# Altium schematic symbol library WE-SPXO.SchLib: 233 symbols (part 4 of 4)
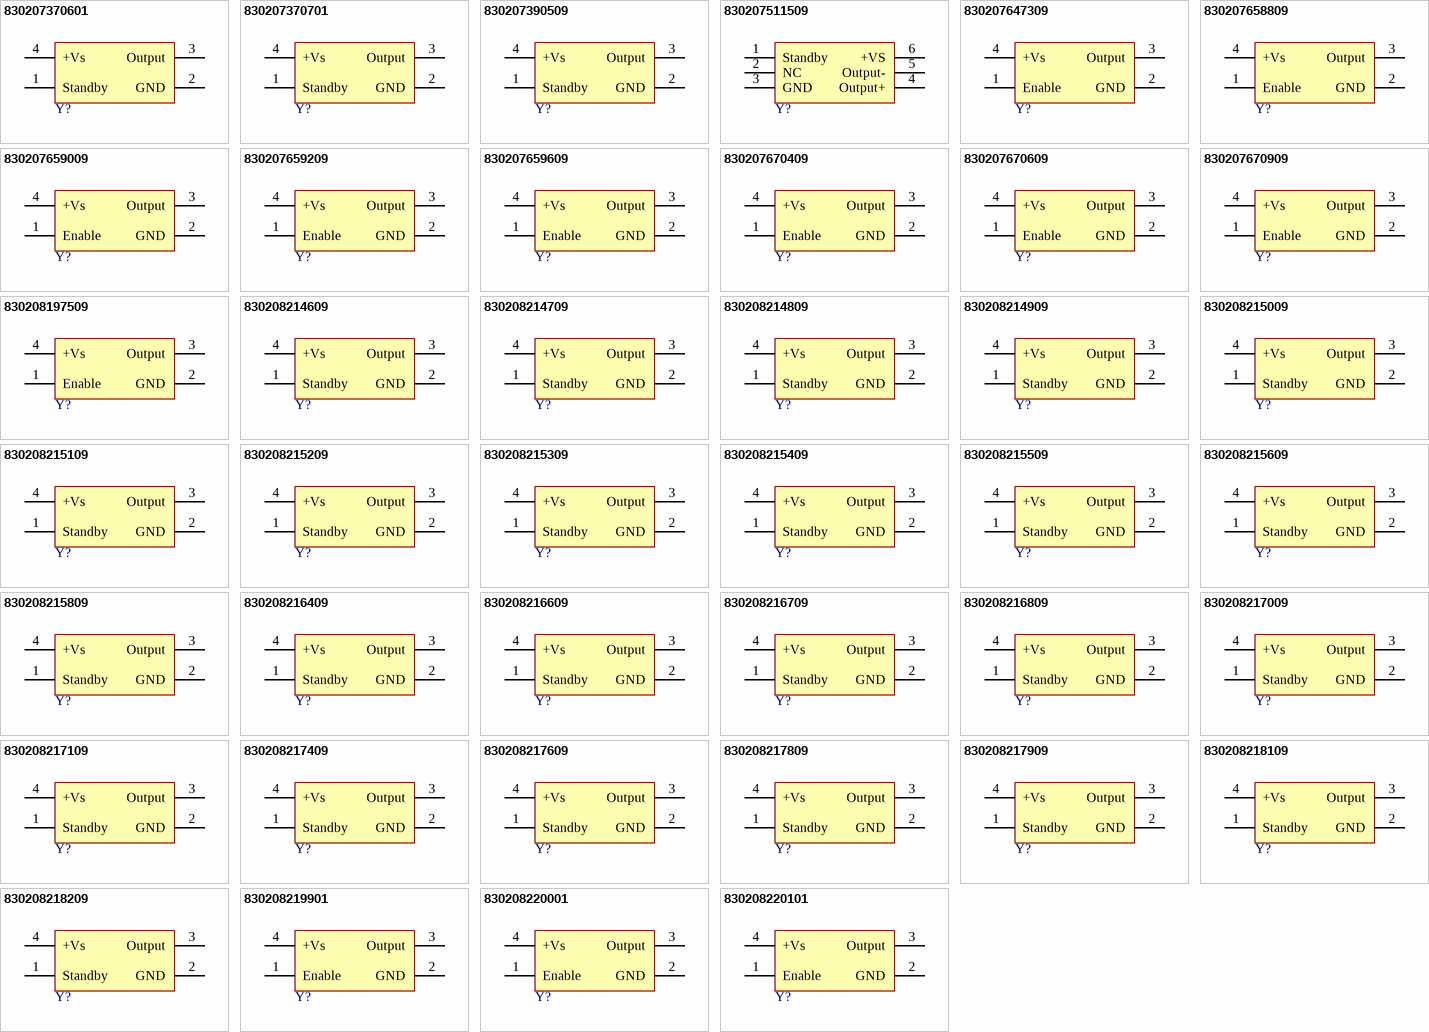
[diagram p8: symbols 830207370601 to 830208220101]

## 830208215609
designator Y?, comment 32.768MHz, 3.3V  (value not drawn)
WE-SPXO Simple Packaged Quartz Oscillator, SMT, IQXO-540, 32.768MHz, 3.3V; Manufacturer Part Number: 830208215609; Manufacturer: Wurth Elektronik; Frequency Stability: +/-25ppm; ComponentLink1Description: Website Link; ComponentLink1URL: https://www.we-online.com/redexpert/article/830208215609?ad; ComponentLink2Description: Datasheet Link; ComponentLink2URL: https://www.we-online.com/redexpert/spec/830208215609?ad; Category: Oscillators; Match Code: WE-SPXO; Mount: Surface Mount; Operating Temperature Max: 70°C; Operating Temperature Min: -20°C; Packaging: Tape and Reel; Case/Size Code: IQXO-540; Length: 2mm; Width: 1.6mm; Height: 0.7mm; Frequency: 32.768MHz; Supply Voltage: 3.3V
footprint WE-SPXO_IQXO-540
pins: 1 Standby, 2 GND, 3 Output, 4 +Vs

## 830208215809
designator Y?, comment 50MHz, 3.3V  (value not drawn)
WE-SPXO Simple Packaged Quartz Oscillator, SMT, IQXO-540, 50MHz, 3.3V; Manufacturer Part Number: 830208215809; Manufacturer: Wurth Elektronik; Frequency Stability: +/-25ppm; ComponentLink1Description: Website Link; ComponentLink1URL: https://www.we-online.com/redexpert/article/830208215809?ad; ComponentLink2Description: Datasheet Link; ComponentLink2URL: https://www.we-online.com/redexpert/spec/830208215809?ad; Category: Oscillators; Match Code: WE-SPXO; Mount: Surface Mount; Operating Temperature Max: 70°C; Operating Temperature Min: -20°C; Packaging: Tape and Reel; Case/Size Code: IQXO-540; Length: 2mm; Width: 1.6mm; Height: 0.7mm; Frequency: 50MHz; Supply Voltage: 3.3V
footprint WE-SPXO_IQXO-540
pins: 1 Standby, 2 GND, 3 Output, 4 +Vs

## 830208216409
designator Y?, comment 4MHz, 1.8V  (value not drawn)
WE-SPXO Simple Packaged Quartz Oscillator, SMT, IQXO-542, 4MHz, 1.8V; Manufacturer Part Number: 830208216409; Manufacturer: Wurth Elektronik; Frequency Stability: +/-25ppm; ComponentLink1Description: Website Link; ComponentLink1URL: https://www.we-online.com/redexpert/article/830208216409?ad; ComponentLink2Description: Datasheet Link; ComponentLink2URL: https://www.we-online.com/redexpert/spec/830208216409?ad; Category: Oscillators; Match Code: WE-SPXO; Mount: Surface Mount; Operating Temperature Max: 70°C; Operating Temperature Min: -20°C; Packaging: Tape and Reel; Case/Size Code: IQXO-542; Length: 2mm; Width: 1.6mm; Height: 0.7mm; Frequency: 4MHz; Supply Voltage: 1.8V
footprint WE-SPXO_IQXO-542
pins: 1 Standby, 2 GND, 3 Output, 4 +Vs

## 830208216609
designator Y?, comment 8MHz, 1.8V  (value not drawn)
WE-SPXO Simple Packaged Quartz Oscillator, SMT, IQXO-542, 8MHz, 1.8V; Manufacturer Part Number: 830208216609; Manufacturer: Wurth Elektronik; Frequency Stability: +/-25ppm; ComponentLink1Description: Website Link; ComponentLink1URL: https://www.we-online.com/redexpert/article/830208216609?ad; ComponentLink2Description: Datasheet Link; ComponentLink2URL: https://www.we-online.com/redexpert/spec/830208216609?ad; Category: Oscillators; Match Code: WE-SPXO; Mount: Surface Mount; Operating Temperature Max: 70°C; Operating Temperature Min: -20°C; Packaging: Tape and Reel; Case/Size Code: IQXO-542; Length: 2mm; Width: 1.6mm; Height: 0.7mm; Frequency: 8MHz; Supply Voltage: 1.8V
footprint WE-SPXO_IQXO-542
pins: 1 Standby, 2 GND, 3 Output, 4 +Vs

## 830208216709
designator Y?, comment 12MHz, 1.8V  (value not drawn)
WE-SPXO Simple Packaged Quartz Oscillator, SMT, IQXO-542, 12MHz, 1.8V; Manufacturer Part Number: 830208216709; Manufacturer: Wurth Elektronik; Frequency Stability: +/-25ppm; ComponentLink1Description: Website Link; ComponentLink1URL: https://www.we-online.com/redexpert/article/830208216709?ad; ComponentLink2Description: Datasheet Link; ComponentLink2URL: https://www.we-online.com/redexpert/spec/830208216709?ad; Category: Oscillators; Match Code: WE-SPXO; Mount: Surface Mount; Operating Temperature Max: 70°C; Operating Temperature Min: -20°C; Packaging: Tape and Reel; Case/Size Code: IQXO-542; Length: 2mm; Width: 1.6mm; Height: 0.7mm; Frequency: 12MHz; Supply Voltage: 1.8V
footprint WE-SPXO_IQXO-542
pins: 1 Standby, 2 GND, 3 Output, 4 +Vs

## 830208216809
designator Y?, comment 12.288MHz, 1.8V  (value not drawn)
WE-SPXO Simple Packaged Quartz Oscillator, SMT, IQXO-542, 12.288MHz, 1.8V; Manufacturer Part Number: 830208216809; Manufacturer: Wurth Elektronik; Frequency Stability: +/-25ppm; ComponentLink1Description: Website Link; ComponentLink1URL: https://www.we-online.com/redexpert/article/830208216809?ad; ComponentLink2Description: Datasheet Link; ComponentLink2URL: https://www.we-online.com/redexpert/spec/830208216809?ad; Category: Oscillators; Match Code: WE-SPXO; Mount: Surface Mount; Operating Temperature Max: 70°C; Operating Temperature Min: -20°C; Packaging: Tape and Reel; Case/Size Code: IQXO-542; Length: 2mm; Width: 1.6mm; Height: 0.7mm; Frequency: 12.288MHz; Supply Voltage: 1.8V
footprint WE-SPXO_IQXO-542
pins: 1 Standby, 2 GND, 3 Output, 4 +Vs

## 830208217009
designator Y?, comment 19.2MHz, 1.8V  (value not drawn)
WE-SPXO Simple Packaged Quartz Oscillator, SMT, IQXO-542, 19.2MHz, 1.8V; Manufacturer Part Number: 830208217009; Manufacturer: Wurth Elektronik; Frequency Stability: +/-25ppm; ComponentLink1Description: Website Link; ComponentLink1URL: https://www.we-online.com/redexpert/article/830208217009?ad; ComponentLink2Description: Datasheet Link; ComponentLink2URL: https://www.we-online.com/redexpert/spec/830208217009?ad; Category: Oscillators; Match Code: WE-SPXO; Mount: Surface Mount; Operating Temperature Max: 70°C; Operating Temperature Min: -20°C; Packaging: Tape and Reel; Case/Size Code: IQXO-542; Length: 2mm; Width: 1.6mm; Height: 0.7mm; Frequency: 19.2MHz; Supply Voltage: 1.8V
footprint WE-SPXO_IQXO-542
pins: 1 Standby, 2 GND, 3 Output, 4 +Vs

## 830208217109
designator Y?, comment 24MHz, 1.8V  (value not drawn)
WE-SPXO Simple Packaged Quartz Oscillator, SMT, IQXO-542, 24MHz, 1.8V; Manufacturer Part Number: 830208217109; Manufacturer: Wurth Elektronik; Frequency Stability: +/-25ppm; ComponentLink1Description: Website Link; ComponentLink1URL: https://www.we-online.com/redexpert/article/830208217109?ad; ComponentLink2Description: Datasheet Link; ComponentLink2URL: https://www.we-online.com/redexpert/spec/830208217109?ad; Category: Oscillators; Match Code: WE-SPXO; Mount: Surface Mount; Operating Temperature Max: 70°C; Operating Temperature Min: -20°C; Packaging: Tape and Reel; Case/Size Code: IQXO-542; Length: 2mm; Width: 1.6mm; Height: 0.7mm; Frequency: 24MHz; Supply Voltage: 1.8V
footprint WE-SPXO_IQXO-542
pins: 1 Standby, 2 GND, 3 Output, 4 +Vs

## 830208217409
designator Y?, comment 24.576MHz, 1.8V  (value not drawn)
WE-SPXO Simple Packaged Quartz Oscillator, SMT, IQXO-542, 24.576MHz, 1.8V; Manufacturer Part Number: 830208217409; Manufacturer: Wurth Elektronik; Frequency Stability: +/-25ppm; ComponentLink1Description: Website Link; ComponentLink1URL: https://www.we-online.com/redexpert/article/830208217409?ad; ComponentLink2Description: Datasheet Link; ComponentLink2URL: https://www.we-online.com/redexpert/spec/830208217409?ad; Category: Oscillators; Match Code: WE-SPXO; Mount: Surface Mount; Operating Temperature Max: 70°C; Operating Temperature Min: -20°C; Packaging: Tape and Reel; Case/Size Code: IQXO-542; Length: 2mm; Width: 1.6mm; Height: 0.7mm; Frequency: 24.576MHz; Supply Voltage: 1.8V
footprint WE-SPXO_IQXO-542
pins: 1 Standby, 2 GND, 3 Output, 4 +Vs

## 830208217609
designator Y?, comment 26MHz, 1.8V  (value not drawn)
WE-SPXO Simple Packaged Quartz Oscillator, SMT, IQXO-542, 26MHz, 1.8V; Manufacturer Part Number: 830208217609; Manufacturer: Wurth Elektronik; Frequency Stability: +/-25ppm; ComponentLink1Description: Website Link; ComponentLink1URL: https://www.we-online.com/redexpert/article/830208217609?ad; ComponentLink2Description: Datasheet Link; ComponentLink2URL: https://www.we-online.com/redexpert/spec/830208217609?ad; Category: Oscillators; Match Code: WE-SPXO; Mount: Surface Mount; Operating Temperature Max: 70°C; Operating Temperature Min: -20°C; Packaging: Tape and Reel; Case/Size Code: IQXO-542; Length: 2mm; Width: 1.6mm; Height: 0.7mm; Frequency: 26MHz; Supply Voltage: 1.8V
footprint WE-SPXO_IQXO-542
pins: 1 Standby, 2 GND, 3 Output, 4 +Vs

## 830208217809
designator Y?, comment 27MHz, 1.8V  (value not drawn)
WE-SPXO Simple Packaged Quartz Oscillator, SMT, IQXO-542, 27MHz, 1.8V; Manufacturer Part Number: 830208217809; Manufacturer: Wurth Elektronik; Frequency Stability: +/-25ppm; ComponentLink1Description: Website Link; ComponentLink1URL: https://www.we-online.com/redexpert/article/830208217809?ad; ComponentLink2Description: Datasheet Link; ComponentLink2URL: https://www.we-online.com/redexpert/spec/830208217809?ad; Category: Oscillators; Match Code: WE-SPXO; Mount: Surface Mount; Operating Temperature Max: 70°C; Operating Temperature Min: -20°C; Packaging: Tape and Reel; Case/Size Code: IQXO-542; Length: 2mm; Width: 1.6mm; Height: 0.7mm; Frequency: 27MHz; Supply Voltage: 1.8V
footprint WE-SPXO_IQXO-542
pins: 1 Standby, 2 GND, 3 Output, 4 +Vs

## 830208217909
designator Y?, comment 30MHz, 1.8V  (value not drawn)
WE-SPXO Simple Packaged Quartz Oscillator, SMT, IQXO-542, 30MHz, 1.8V; Manufacturer Part Number: 830208217909; Manufacturer: Wurth Elektronik; Frequency Stability: +/-25ppm; ComponentLink1Description: Website Link; ComponentLink1URL: https://www.we-online.com/redexpert/article/830208217909?ad; ComponentLink2Description: Datasheet Link; ComponentLink2URL: https://www.we-online.com/redexpert/spec/830208217909?ad; Category: Oscillators; Match Code: WE-SPXO; Mount: Surface Mount; Operating Temperature Max: 70°C; Operating Temperature Min: -20°C; Packaging: Tape and Reel; Case/Size Code: IQXO-542; Length: 2mm; Width: 1.6mm; Height: 0.7mm; Frequency: 30MHz; Supply Voltage: 1.8V
footprint WE-SPXO_IQXO-542
pins: 1 Standby, 2 GND, 3 Output, 4 +Vs

## 830208218109
designator Y?, comment 32.768MHz, 1.8V  (value not drawn)
WE-SPXO Simple Packaged Quartz Oscillator, SMT, IQXO-542, 32.768MHz, 1.8V; Manufacturer Part Number: 830208218109; Manufacturer: Wurth Elektronik; Frequency Stability: +/-25ppm; ComponentLink1Description: Website Link; ComponentLink1URL: https://www.we-online.com/redexpert/article/830208218109?ad; ComponentLink2Description: Datasheet Link; ComponentLink2URL: https://www.we-online.com/redexpert/spec/830208218109?ad; Category: Oscillators; Match Code: WE-SPXO; Mount: Surface Mount; Operating Temperature Max: 70°C; Operating Temperature Min: -20°C; Packaging: Tape and Reel; Case/Size Code: IQXO-542; Length: 2mm; Width: 1.6mm; Height: 0.7mm; Frequency: 32.768MHz; Supply Voltage: 1.8V
footprint WE-SPXO_IQXO-542
pins: 1 Standby, 2 GND, 3 Output, 4 +Vs

## 830208218209
designator Y?, comment 50MHz, 1.8V  (value not drawn)
WE-SPXO Simple Packaged Quartz Oscillator, SMT, IQXO-542, 50MHz, 1.8V; Manufacturer Part Number: 830208218209; Manufacturer: Wurth Elektronik; Frequency Stability: +/-25ppm; ComponentLink1Description: Website Link; ComponentLink1URL: https://www.we-online.com/redexpert/article/830208218209?ad; ComponentLink2Description: Datasheet Link; ComponentLink2URL: https://www.we-online.com/redexpert/spec/830208218209?ad; Category: Oscillators; Match Code: WE-SPXO; Mount: Surface Mount; Operating Temperature Max: 70°C; Operating Temperature Min: -20°C; Packaging: Tape and Reel; Case/Size Code: IQXO-542; Length: 2mm; Width: 1.6mm; Height: 0.7mm; Frequency: 50MHz; Supply Voltage: 1.8V
footprint WE-SPXO_IQXO-542
pins: 1 Standby, 2 GND, 3 Output, 4 +Vs

## 830208219901
designator Y?, comment 4MHz, 3.3V  (value not drawn)
WE-SPXO Simple Packaged Quartz Oscillator, SMT, IQXO-791, 4MHz, 3.3V; Manufacturer Part Number: 830208219901; Manufacturer: Wurth Elektronik; Frequency Stability: +/-25ppm; ComponentLink1Description: Website Link; ComponentLink1URL: https://www.we-online.com/redexpert/article/830208219901?ad; ComponentLink2Description: Datasheet Link; ComponentLink2URL: https://www.we-online.com/redexpert/spec/830208219901?ad; Category: Oscillators; Match Code: WE-SPXO; Mount: Surface Mount; Operating Temperature Max: 70°C; Operating Temperature Min: -20°C; Packaging: Tape and Reel; Case/Size Code: IQXO-791; Length: 2.5mm; Width: 2mm; Height: 1mm; Frequency: 4MHz; Supply Voltage: 3.3V
footprint WE-SPXO_IQXO-791
pins: 1 Enable, 2 GND, 3 Output, 4 +Vs

## 830208220001
designator Y?, comment 8MHz, 3.3V  (value not drawn)
WE-SPXO Simple Packaged Quartz Oscillator, SMT, IQXO-791, 8MHz, 3.3V; Manufacturer Part Number: 830208220001; Manufacturer: Wurth Elektronik; Frequency Stability: +/-25ppm; ComponentLink1Description: Website Link; ComponentLink1URL: https://www.we-online.com/redexpert/article/830208220001?ad; ComponentLink2Description: Datasheet Link; ComponentLink2URL: https://www.we-online.com/redexpert/spec/830208220001?ad; Category: Oscillators; Match Code: WE-SPXO; Mount: Surface Mount; Operating Temperature Max: 70°C; Operating Temperature Min: -20°C; Packaging: Tape and Reel; Case/Size Code: IQXO-791; Length: 2.5mm; Width: 2mm; Height: 1mm; Frequency: 8MHz; Supply Voltage: 3.3V
footprint WE-SPXO_IQXO-791
pins: 1 Enable, 2 GND, 3 Output, 4 +Vs

## 830208220101
designator Y?, comment 12.288MHz, 3.3V  (value not drawn)
WE-SPXO Simple Packaged Quartz Oscillator, SMT, IQXO-791, 12.288MHz, 3.3V; Manufacturer Part Number: 830208220101; Manufacturer: Wurth Elektronik; Frequency Stability: +/-25ppm; ComponentLink1Description: Website Link; ComponentLink1URL: https://www.we-online.com/redexpert/article/830208220101?ad; ComponentLink2Description: Datasheet Link; ComponentLink2URL: https://www.we-online.com/redexpert/spec/830208220101?ad; Category: Oscillators; Match Code: WE-SPXO; Mount: Surface Mount; Operating Temperature Max: 70°C; Operating Temperature Min: -20°C; Packaging: Tape and Reel; Case/Size Code: IQXO-791; Length: 2.5mm; Width: 2mm; Height: 1mm; Frequency: 12.288MHz; Supply Voltage: 3.3V
footprint WE-SPXO_IQXO-791
pins: 1 Enable, 2 GND, 3 Output, 4 +Vs

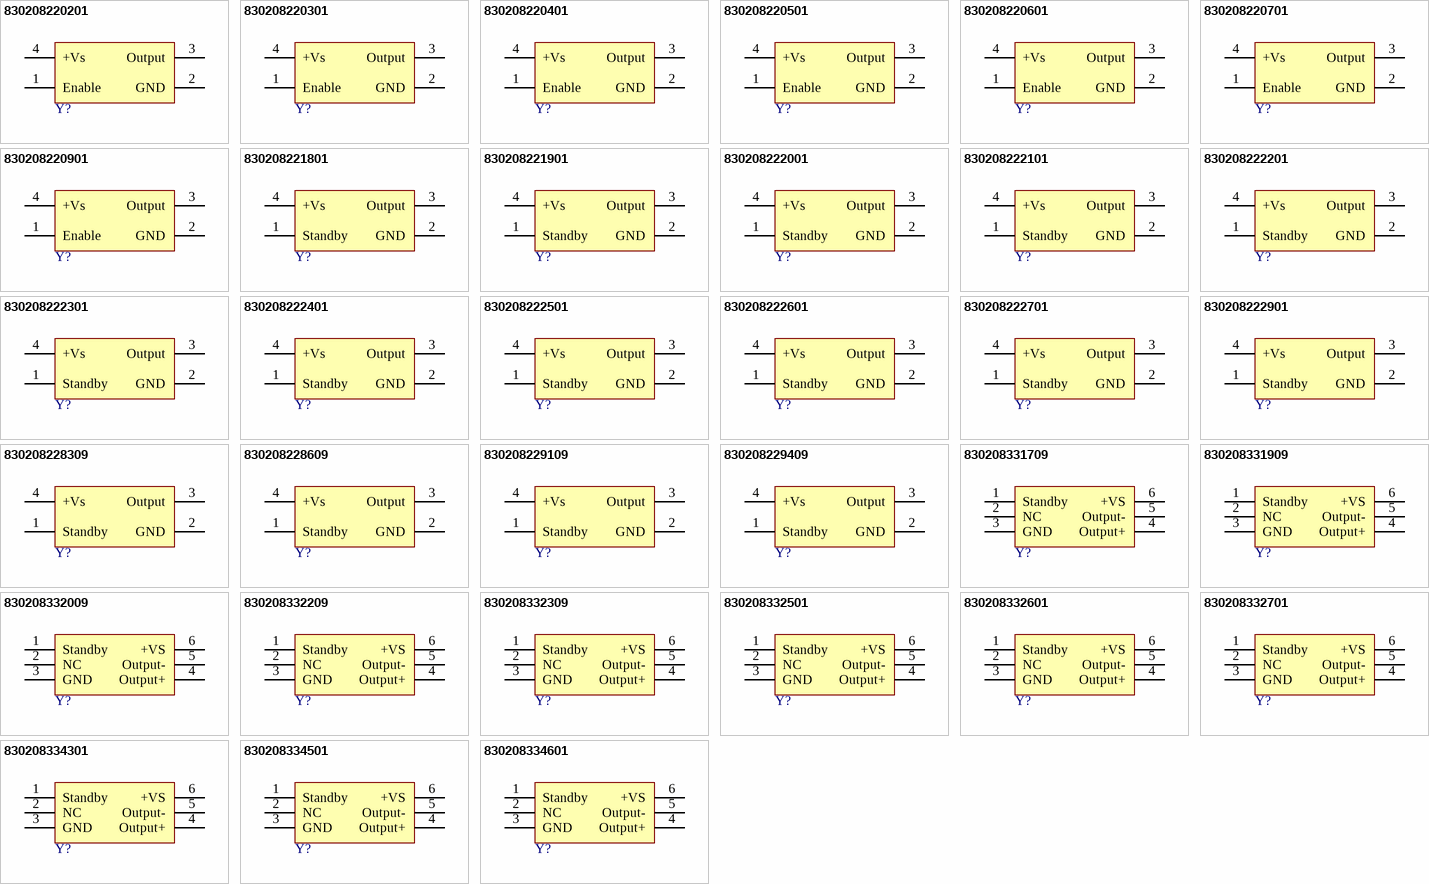
[diagram p5: symbols 830208220201 to 830208334601]

## 830208220201
designator Y?, comment 16MHz, 3.3V  (value not drawn)
WE-SPXO Simple Packaged Quartz Oscillator, SMT, IQXO-791, 16MHz, 3.3V; Manufacturer Part Number: 830208220201; Manufacturer: Wurth Elektronik; Frequency Stability: +/-25ppm; ComponentLink1Description: Website Link; ComponentLink1URL: https://www.we-online.com/redexpert/article/830208220201?ad; ComponentLink2Description: Datasheet Link; ComponentLink2URL: https://www.we-online.com/redexpert/spec/830208220201?ad; Category: Oscillators; Match Code: WE-SPXO; Mount: Surface Mount; Operating Temperature Max: 70°C; Operating Temperature Min: -20°C; Packaging: Tape and Reel; Case/Size Code: IQXO-791; Length: 2.5mm; Width: 2mm; Height: 1mm; Frequency: 16MHz; Supply Voltage: 3.3V
footprint WE-SPXO_IQXO-791
pins: 1 Enable, 2 GND, 3 Output, 4 +Vs

## 830208220301
designator Y?, comment 19.2MHz, 3.3V  (value not drawn)
WE-SPXO Simple Packaged Quartz Oscillator, SMT, IQXO-791, 19.2MHz, 3.3V; Manufacturer Part Number: 830208220301; Manufacturer: Wurth Elektronik; Frequency Stability: +/-25ppm; ComponentLink1Description: Website Link; ComponentLink1URL: https://www.we-online.com/redexpert/article/830208220301?ad; ComponentLink2Description: Datasheet Link; ComponentLink2URL: https://www.we-online.com/redexpert/spec/830208220301?ad; Category: Oscillators; Match Code: WE-SPXO; Mount: Surface Mount; Operating Temperature Max: 70°C; Operating Temperature Min: -20°C; Packaging: Tape and Reel; Case/Size Code: IQXO-791; Length: 2.5mm; Width: 2mm; Height: 1mm; Frequency: 19.2MHz; Supply Voltage: 3.3V
footprint WE-SPXO_IQXO-791
pins: 1 Enable, 2 GND, 3 Output, 4 +Vs

## 830208220401
designator Y?, comment 20MHz, 3.3V  (value not drawn)
WE-SPXO Simple Packaged Quartz Oscillator, SMT, IQXO-791, 20MHz, 3.3V; Manufacturer Part Number: 830208220401; Manufacturer: Wurth Elektronik; Frequency Stability: +/-25ppm; ComponentLink1Description: Website Link; ComponentLink1URL: https://www.we-online.com/redexpert/article/830208220401?ad; ComponentLink2Description: Datasheet Link; ComponentLink2URL: https://www.we-online.com/redexpert/spec/830208220401?ad; Category: Oscillators; Match Code: WE-SPXO; Mount: Surface Mount; Operating Temperature Max: 70°C; Operating Temperature Min: -20°C; Packaging: Tape and Reel; Case/Size Code: IQXO-791; Length: 2.5mm; Width: 2mm; Height: 1mm; Frequency: 20MHz; Supply Voltage: 3.3V
footprint WE-SPXO_IQXO-791
pins: 1 Enable, 2 GND, 3 Output, 4 +Vs

## 830208220501
designator Y?, comment 26MHz, 3.3V  (value not drawn)
WE-SPXO Simple Packaged Quartz Oscillator, SMT, IQXO-791, 26MHz, 3.3V; Manufacturer Part Number: 830208220501; Manufacturer: Wurth Elektronik; Frequency Stability: +/-25ppm; ComponentLink1Description: Website Link; ComponentLink1URL: https://www.we-online.com/redexpert/article/830208220501?ad; ComponentLink2Description: Datasheet Link; ComponentLink2URL: https://www.we-online.com/redexpert/spec/830208220501?ad; Category: Oscillators; Match Code: WE-SPXO; Mount: Surface Mount; Operating Temperature Max: 70°C; Operating Temperature Min: -20°C; Packaging: Tape and Reel; Case/Size Code: IQXO-791; Length: 2.5mm; Width: 2mm; Height: 1mm; Frequency: 26MHz; Supply Voltage: 3.3V
footprint WE-SPXO_IQXO-791
pins: 1 Enable, 2 GND, 3 Output, 4 +Vs

## 830208220601
designator Y?, comment 32.768MHz, 3.3V  (value not drawn)
WE-SPXO Simple Packaged Quartz Oscillator, SMT, IQXO-791, 32.768MHz, 3.3V; Manufacturer Part Number: 830208220601; Manufacturer: Wurth Elektronik; Frequency Stability: +/-25ppm; ComponentLink1Description: Website Link; ComponentLink1URL: https://www.we-online.com/redexpert/article/830208220601?ad; ComponentLink2Description: Datasheet Link; ComponentLink2URL: https://www.we-online.com/redexpert/spec/830208220601?ad; Category: Oscillators; Match Code: WE-SPXO; Mount: Surface Mount; Operating Temperature Max: 70°C; Operating Temperature Min: -20°C; Packaging: Tape and Reel; Case/Size Code: IQXO-791; Length: 2.5mm; Width: 2mm; Height: 1mm; Frequency: 32.768MHz; Supply Voltage: 3.3V
footprint WE-SPXO_IQXO-791
pins: 1 Enable, 2 GND, 3 Output, 4 +Vs

## 830208220701
designator Y?, comment 33.3333MHz, 3.3V  (value not drawn)
WE-SPXO Simple Packaged Quartz Oscillator, SMT, IQXO-791, 33.3333MHz, 3.3V; Manufacturer Part Number: 830208220701; Manufacturer: Wurth Elektronik; Frequency Stability: +/-25ppm; ComponentLink1Description: Website Link; ComponentLink1URL: https://www.we-online.com/redexpert/article/830208220701?ad; ComponentLink2Description: Datasheet Link; ComponentLink2URL: https://www.we-online.com/redexpert/spec/830208220701?ad; Category: Oscillators; Match Code: WE-SPXO; Mount: Surface Mount; Operating Temperature Max: 70°C; Operating Temperature Min: -20°C; Packaging: Tape and Reel; Case/Size Code: IQXO-791; Length: 2.5mm; Width: 2mm; Height: 1mm; Frequency: 33.3333MHz; Supply Voltage: 3.3V
footprint WE-SPXO_IQXO-791
pins: 1 Enable, 2 GND, 3 Output, 4 +Vs

## 830208220901
designator Y?, comment 50MHz, 3.3V  (value not drawn)
WE-SPXO Simple Packaged Quartz Oscillator, SMT, IQXO-791, 50MHz, 3.3V; Manufacturer Part Number: 830208220901; Manufacturer: Wurth Elektronik; Frequency Stability: +/-25ppm; ComponentLink1Description: Website Link; ComponentLink1URL: https://www.we-online.com/redexpert/article/830208220901?ad; ComponentLink2Description: Datasheet Link; ComponentLink2URL: https://www.we-online.com/redexpert/spec/830208220901?ad; Category: Oscillators; Match Code: WE-SPXO; Mount: Surface Mount; Operating Temperature Max: 70°C; Operating Temperature Min: -20°C; Packaging: Tape and Reel; Case/Size Code: IQXO-791; Length: 2.5mm; Width: 2mm; Height: 1mm; Frequency: 50MHz; Supply Voltage: 3.3V
footprint WE-SPXO_IQXO-791
pins: 1 Enable, 2 GND, 3 Output, 4 +Vs

## 830208221801
designator Y?, comment 4MHz, 1.8V  (value not drawn)
WE-SPXO Simple Packaged Quartz Oscillator, SMT, IQXO-794, 4MHz, 1.8V; Manufacturer Part Number: 830208221801; Manufacturer: Wurth Elektronik; Frequency Stability: +/-25ppm; ComponentLink1Description: Website Link; ComponentLink1URL: https://www.we-online.com/redexpert/article/830208221801?ad; ComponentLink2Description: Datasheet Link; ComponentLink2URL: https://www.we-online.com/redexpert/spec/830208221801?ad; Category: Oscillators; Match Code: WE-SPXO; Mount: Surface Mount; Operating Temperature Max: 70°C; Operating Temperature Min: -20°C; Packaging: Tape and Reel; Case/Size Code: IQXO-794; Length: 2.5mm; Width: 2mm; Height: 1mm; Frequency: 4MHz; Supply Voltage: 1.8V
footprint WE-SPXO_IQXO-794
pins: 1 Standby, 2 GND, 3 Output, 4 +Vs

## 830208221901
designator Y?, comment 8MHz, 1.8V  (value not drawn)
WE-SPXO Simple Packaged Quartz Oscillator, SMT, IQXO-794, 8MHz, 1.8V; Manufacturer Part Number: 830208221901; Manufacturer: Wurth Elektronik; Frequency Stability: +/-25ppm; ComponentLink1Description: Website Link; ComponentLink1URL: https://www.we-online.com/redexpert/article/830208221901?ad; ComponentLink2Description: Datasheet Link; ComponentLink2URL: https://www.we-online.com/redexpert/spec/830208221901?ad; Category: Oscillators; Match Code: WE-SPXO; Mount: Surface Mount; Operating Temperature Max: 70°C; Operating Temperature Min: -20°C; Packaging: Tape and Reel; Case/Size Code: IQXO-794; Length: 2.5mm; Width: 2mm; Height: 1mm; Frequency: 8MHz; Supply Voltage: 1.8V
footprint WE-SPXO_IQXO-794
pins: 1 Standby, 2 GND, 3 Output, 4 +Vs

## 830208222001
designator Y?, comment 12.288MHz, 1.8V  (value not drawn)
WE-SPXO Simple Packaged Quartz Oscillator, SMT, IQXO-794, 12.288MHz, 1.8V; Manufacturer Part Number: 830208222001; Manufacturer: Wurth Elektronik; Frequency Stability: +/-25ppm; ComponentLink1Description: Website Link; ComponentLink1URL: https://www.we-online.com/redexpert/article/830208222001?ad; ComponentLink2Description: Datasheet Link; ComponentLink2URL: https://www.we-online.com/redexpert/spec/830208222001?ad; Category: Oscillators; Match Code: WE-SPXO; Mount: Surface Mount; Operating Temperature Max: 70°C; Operating Temperature Min: -20°C; Packaging: Tape and Reel; Case/Size Code: IQXO-794; Length: 2.5mm; Width: 2mm; Height: 1mm; Frequency: 12.288MHz; Supply Voltage: 1.8V
footprint WE-SPXO_IQXO-794
pins: 1 Standby, 2 GND, 3 Output, 4 +Vs

## 830208222101
designator Y?, comment 16MHz, 1.8V  (value not drawn)
WE-SPXO Simple Packaged Quartz Oscillator, SMT, IQXO-794, 16MHz, 1.8V; Manufacturer Part Number: 830208222101; Manufacturer: Wurth Elektronik; Frequency Stability: +/-25ppm; ComponentLink1Description: Website Link; ComponentLink1URL: https://www.we-online.com/redexpert/article/830208222101?ad; ComponentLink2Description: Datasheet Link; ComponentLink2URL: https://www.we-online.com/redexpert/spec/830208222101?ad; Category: Oscillators; Match Code: WE-SPXO; Mount: Surface Mount; Operating Temperature Max: 70°C; Operating Temperature Min: -20°C; Packaging: Tape and Reel; Case/Size Code: IQXO-794; Length: 2.5mm; Width: 2mm; Height: 1mm; Frequency: 16MHz; Supply Voltage: 1.8V
footprint WE-SPXO_IQXO-794
pins: 1 Standby, 2 GND, 3 Output, 4 +Vs

## 830208222201
designator Y?, comment 19.2MHz, 1.8V  (value not drawn)
WE-SPXO Simple Packaged Quartz Oscillator, SMT, IQXO-794, 19.2MHz, 1.8V; Manufacturer Part Number: 830208222201; Manufacturer: Wurth Elektronik; Frequency Stability: +/-25ppm; ComponentLink1Description: Website Link; ComponentLink1URL: https://www.we-online.com/redexpert/article/830208222201?ad; ComponentLink2Description: Datasheet Link; ComponentLink2URL: https://www.we-online.com/redexpert/spec/830208222201?ad; Category: Oscillators; Match Code: WE-SPXO; Mount: Surface Mount; Operating Temperature Max: 70°C; Operating Temperature Min: -20°C; Packaging: Tape and Reel; Case/Size Code: IQXO-794; Length: 2.5mm; Width: 2mm; Height: 1mm; Frequency: 19.2MHz; Supply Voltage: 1.8V
footprint WE-SPXO_IQXO-794
pins: 1 Standby, 2 GND, 3 Output, 4 +Vs

## 830208222301
designator Y?, comment 20MHz, 1.8V  (value not drawn)
WE-SPXO Simple Packaged Quartz Oscillator, SMT, IQXO-794, 20MHz, 1.8V; Manufacturer Part Number: 830208222301; Manufacturer: Wurth Elektronik; Frequency Stability: +/-25ppm; ComponentLink1Description: Website Link; ComponentLink1URL: https://www.we-online.com/redexpert/article/830208222301?ad; ComponentLink2Description: Datasheet Link; ComponentLink2URL: https://www.we-online.com/redexpert/spec/830208222301?ad; Category: Oscillators; Match Code: WE-SPXO; Mount: Surface Mount; Operating Temperature Max: 70°C; Operating Temperature Min: -20°C; Packaging: Tape and Reel; Case/Size Code: IQXO-794; Length: 2.5mm; Width: 2mm; Height: 1mm; Frequency: 20MHz; Supply Voltage: 1.8V
footprint WE-SPXO_IQXO-794
pins: 1 Standby, 2 GND, 3 Output, 4 +Vs

## 830208222401
designator Y?, comment 26MHz, 1.8V  (value not drawn)
WE-SPXO Simple Packaged Quartz Oscillator, SMT, IQXO-794, 26MHz, 1.8V; Manufacturer Part Number: 830208222401; Manufacturer: Wurth Elektronik; Frequency Stability: +/-25ppm; ComponentLink1Description: Website Link; ComponentLink1URL: https://www.we-online.com/redexpert/article/830208222401?ad; ComponentLink2Description: Datasheet Link; ComponentLink2URL: https://www.we-online.com/redexpert/spec/830208222401?ad; Category: Oscillators; Match Code: WE-SPXO; Mount: Surface Mount; Operating Temperature Max: 70°C; Operating Temperature Min: -20°C; Packaging: Tape and Reel; Case/Size Code: IQXO-794; Length: 2.5mm; Width: 2mm; Height: 1mm; Frequency: 26MHz; Supply Voltage: 1.8V
footprint WE-SPXO_IQXO-794
pins: 1 Standby, 2 GND, 3 Output, 4 +Vs

## 830208222501
designator Y?, comment 32.768MHz, 1.8V  (value not drawn)
WE-SPXO Simple Packaged Quartz Oscillator, SMT, IQXO-794, 32.768MHz, 1.8V; Manufacturer Part Number: 830208222501; Manufacturer: Wurth Elektronik; Frequency Stability: +/-25ppm; ComponentLink1Description: Website Link; ComponentLink1URL: https://www.we-online.com/redexpert/article/830208222501?ad; ComponentLink2Description: Datasheet Link; ComponentLink2URL: https://www.we-online.com/redexpert/spec/830208222501?ad; Category: Oscillators; Match Code: WE-SPXO; Mount: Surface Mount; Operating Temperature Max: 70°C; Operating Temperature Min: -20°C; Packaging: Tape and Reel; Case/Size Code: IQXO-794; Length: 2.5mm; Width: 2mm; Height: 1mm; Frequency: 32.768MHz; Supply Voltage: 1.8V
footprint WE-SPXO_IQXO-794
pins: 1 Standby, 2 GND, 3 Output, 4 +Vs

## 830208222601
designator Y?, comment 33.3333MHz, 1.8V  (value not drawn)
WE-SPXO Simple Packaged Quartz Oscillator, SMT, IQXO-794, 33.3333MHz, 1.8V; Manufacturer Part Number: 830208222601; Manufacturer: Wurth Elektronik; Frequency Stability: +/-25ppm; ComponentLink1Description: Website Link; ComponentLink1URL: https://www.we-online.com/redexpert/article/830208222601?ad; ComponentLink2Description: Datasheet Link; ComponentLink2URL: https://www.we-online.com/redexpert/spec/830208222601?ad; Category: Oscillators; Match Code: WE-SPXO; Mount: Surface Mount; Operating Temperature Max: 70°C; Operating Temperature Min: -20°C; Packaging: Tape and Reel; Case/Size Code: IQXO-794; Length: 2.5mm; Width: 2mm; Height: 1mm; Frequency: 33.3333MHz; Supply Voltage: 1.8V
footprint WE-SPXO_IQXO-794
pins: 1 Standby, 2 GND, 3 Output, 4 +Vs

## 830208222701
designator Y?, comment 40MHz, 1.8V  (value not drawn)
WE-SPXO Simple Packaged Quartz Oscillator, SMT, IQXO-794, 40MHz, 1.8V; Manufacturer Part Number: 830208222701; Manufacturer: Wurth Elektronik; Frequency Stability: +/-25ppm; ComponentLink1Description: Website Link; ComponentLink1URL: https://www.we-online.com/redexpert/article/830208222701?ad; ComponentLink2Description: Datasheet Link; ComponentLink2URL: https://www.we-online.com/redexpert/spec/830208222701?ad; Category: Oscillators; Match Code: WE-SPXO; Mount: Surface Mount; Operating Temperature Max: 70°C; Operating Temperature Min: -20°C; Packaging: Tape and Reel; Case/Size Code: IQXO-794; Length: 2.5mm; Width: 2mm; Height: 1mm; Frequency: 40MHz; Supply Voltage: 1.8V
footprint WE-SPXO_IQXO-794
pins: 1 Standby, 2 GND, 3 Output, 4 +Vs

## 830208222901
designator Y?, comment 32MHz, 1.8V  (value not drawn)
WE-SPXO Simple Packaged Quartz Oscillator, SMT, IQXO-794, 32MHz, 1.8V; Manufacturer Part Number: 830208222901; Manufacturer: Wurth Elektronik; Frequency Stability: +/-25ppm; ComponentLink1Description: Website Link; ComponentLink1URL: https://www.we-online.com/redexpert/article/830208222901?ad; ComponentLink2Description: Datasheet Link; ComponentLink2URL: https://www.we-online.com/redexpert/spec/830208222901?ad; Category: Oscillators; Match Code: WE-SPXO; Mount: Surface Mount; Operating Temperature Max: 70°C; Operating Temperature Min: -20°C; Packaging: Tape and Reel; Case/Size Code: IQXO-794; Length: 2.5mm; Width: 2mm; Height: 1mm; Frequency: 32MHz; Supply Voltage: 1.8V
footprint WE-SPXO_IQXO-794
pins: 1 Standby, 2 GND, 3 Output, 4 +Vs

## 830208228309
designator Y?, comment 32.768kHz, 1.8V  (value not drawn)
WE-SPXO Simple Packaged Quartz Oscillator, SMT, CFPS-102, 32.768kHz, 1.8V; Manufacturer Part Number: 830208228309; Manufacturer: Wurth Elektronik; Frequency Stability: +/-100ppm; ComponentLink1Description: Website Link; ComponentLink1URL: https://www.we-online.com/redexpert/article/830208228309?ad; ComponentLink2Description: Datasheet Link; ComponentLink2URL: https://www.we-online.com/redexpert/spec/830208228309?ad; Category: Oscillators; Match Code: WE-SPXO; Mount: Surface Mount; Operating Temperature Max: 125°C; Operating Temperature Min: -40°C; Packaging: Tape and Reel; Case/Size Code: CFPS-102; Length: 3.4mm; Width: 2.7mm; Height: 1.2mm; Frequency: 32.768kHz; Supply Voltage: 1.8V
footprint WE-SPXO_CFPS-102
pins: 1 Standby, 2 GND, 3 Output, 4 +Vs

## 830208228609
designator Y?, comment 32.768kHz, 3.3V  (value not drawn)
WE-SPXO Simple Packaged Quartz Oscillator, SMT, CFPS-104, 32.768kHz, 3.3V; Manufacturer Part Number: 830208228609; Manufacturer: Wurth Elektronik; Frequency Stability: +/-100ppm; ComponentLink1Description: Website Link; ComponentLink1URL: https://www.we-online.com/redexpert/article/830208228609?ad; ComponentLink2Description: Datasheet Link; ComponentLink2URL: https://www.we-online.com/redexpert/spec/830208228609?ad; Category: Oscillators; Match Code: WE-SPXO; Mount: Surface Mount; Operating Temperature Max: 125°C; Operating Temperature Min: -40°C; Packaging: Tape and Reel; Case/Size Code: CFPS-104; Length: 3.4mm; Width: 2.7mm; Height: 1.2mm; Frequency: 32.768kHz; Supply Voltage: 3.3V
footprint WE-SPXO_CFPS-104
pins: 1 Standby, 2 GND, 3 Output, 4 +Vs

## 830208229109
designator Y?, comment 32.768kHz, 1.8V  (value not drawn)
WE-SPXO Simple Packaged Quartz Oscillator, SMT, CFPS-107, 32.768kHz, 1.8V; Manufacturer Part Number: 830208229109; Manufacturer: Wurth Elektronik; Frequency Stability: +/-100ppm; ComponentLink1Description: Website Link; ComponentLink1URL: https://www.we-online.com/redexpert/article/830208229109?ad; ComponentLink2Description: Datasheet Link; ComponentLink2URL: https://www.we-online.com/redexpert/spec/830208229109?ad; Category: Oscillators; Match Code: WE-SPXO; Mount: Surface Mount; Operating Temperature Max: 125°C; Operating Temperature Min: -40°C; Packaging: Tape and Reel; Case/Size Code: CFPS-107; Length: 2.6mm; Width: 2.1mm; Height: 0.95mm; Frequency: 32.768kHz; Supply Voltage: 1.8V
footprint WE-SPXO_CFPS-107
pins: 1 Standby, 2 GND, 3 Output, 4 +Vs

## 830208229409
designator Y?, comment 32.768kHz, 3.3V  (value not drawn)
WE-SPXO Simple Packaged Quartz Oscillator, SMT, CFPS-109, 32.768kHz, 3.3V; Manufacturer Part Number: 830208229409; Manufacturer: Wurth Elektronik; Frequency Stability: +/-100ppm; ComponentLink1Description: Website Link; ComponentLink1URL: https://www.we-online.com/redexpert/article/830208229409?ad; ComponentLink2Description: Datasheet Link; ComponentLink2URL: https://www.we-online.com/redexpert/spec/830208229409?ad; Category: Oscillators; Match Code: WE-SPXO; Mount: Surface Mount; Operating Temperature Max: 125°C; Operating Temperature Min: -40°C; Packaging: Tape and Reel; Case/Size Code: CFPS-109; Length: 2.6mm; Width: 2.1mm; Height: 0.95mm; Frequency: 32.768kHz; Supply Voltage: 3.3V
footprint WE-SPXO_CFPS-109
pins: 1 Standby, 2 GND, 3 Output, 4 +Vs

## 830208331709
designator Y?, comment 100MHz, 3.3V  (value not drawn)
WE-SPXO Simple Packaged Quartz Oscillator, SMT, IQXO-618-33, 100MHz, 3.3V; Manufacturer Part Number: 830208331709; Manufacturer: Wurth Elektronik; Frequency Stability: +/-50ppm; ComponentLink1Description: Website Link; ComponentLink1URL: https://www.we-online.com/redexpert/article/830208331709?ad; ComponentLink2Description: Datasheet Link; ComponentLink2URL: https://www.we-online.com/redexpert/spec/830208331709?ad; Category: Oscillators; Match Code: WE-SPXO; Mount: Surface Mount; Operating Temperature Max: 105°C; Operating Temperature Min: -40°C; Packaging: Tape and Reel; Case/Size Code: IQXO-618-33; Length: 3.2mm; Width: 2.5mm; Height: 1.1mm; Frequency: 100MHz; Supply Voltage: 3.3V
footprint WE-SPXO_IQXO-618-33
pins: 1 Standby, 2 NC, 3 GND, 4 Output+, 5 Output-, 6 +VS

## 830208331909
designator Y?, comment 125MHz, 3.3V  (value not drawn)
WE-SPXO Simple Packaged Quartz Oscillator, SMT, IQXO-618-33, 125MHz, 3.3V; Manufacturer Part Number: 830208331909; Manufacturer: Wurth Elektronik; Frequency Stability: +/-50ppm; ComponentLink1Description: Website Link; ComponentLink1URL: https://www.we-online.com/redexpert/article/830208331909?ad; ComponentLink2Description: Datasheet Link; ComponentLink2URL: https://www.we-online.com/redexpert/spec/830208331909?ad; Category: Oscillators; Match Code: WE-SPXO; Mount: Surface Mount; Operating Temperature Max: 105°C; Operating Temperature Min: -40°C; Packaging: Tape and Reel; Case/Size Code: IQXO-618-33; Length: 3.2mm; Width: 2.5mm; Height: 1.1mm; Frequency: 125MHz; Supply Voltage: 3.3V
footprint WE-SPXO_IQXO-618-33
pins: 1 Standby, 2 NC, 3 GND, 4 Output+, 5 Output-, 6 +VS

## 830208332009
designator Y?, comment 156.25MHz, 3.3V  (value not drawn)
WE-SPXO Simple Packaged Quartz Oscillator, SMT, IQXO-618-33, 156.25MHz, 3.3V; Manufacturer Part Number: 830208332009; Manufacturer: Wurth Elektronik; Frequency Stability: +/-50ppm; ComponentLink1Description: Website Link; ComponentLink1URL: https://www.we-online.com/redexpert/article/830208332009?ad; ComponentLink2Description: Datasheet Link; ComponentLink2URL: https://www.we-online.com/redexpert/spec/830208332009?ad; Category: Oscillators; Match Code: WE-SPXO; Mount: Surface Mount; Operating Temperature Max: 105°C; Operating Temperature Min: -40°C; Packaging: Tape and Reel; Case/Size Code: IQXO-618-33; Length: 3.2mm; Width: 2.5mm; Height: 1.1mm; Frequency: 156.25MHz; Supply Voltage: 3.3V
footprint WE-SPXO_IQXO-618-33
pins: 1 Standby, 2 NC, 3 GND, 4 Output+, 5 Output-, 6 +VS

## 830208332209
designator Y?, comment 100MHz, 2.5V  (value not drawn)
WE-SPXO Simple Packaged Quartz Oscillator, SMT, IQXO-618-25, 100MHz, 2.5V; Manufacturer Part Number: 830208332209; Manufacturer: Wurth Elektronik; Frequency Stability: +/-50ppm; ComponentLink1Description: Website Link; ComponentLink1URL: https://www.we-online.com/redexpert/article/830208332209?ad; ComponentLink2Description: Datasheet Link; ComponentLink2URL: https://www.we-online.com/redexpert/spec/830208332209?ad; Category: Oscillators; Match Code: WE-SPXO; Mount: Surface Mount; Operating Temperature Max: 105°C; Operating Temperature Min: -40°C; Packaging: Tape and Reel; Case/Size Code: IQXO-618-25; Length: 3.2mm; Width: 2.5mm; Height: 1.1mm; Frequency: 100MHz; Supply Voltage: 2.5V
footprint WE-SPXO_IQXO-618-25
pins: 1 Standby, 2 NC, 3 GND, 4 Output+, 5 Output-, 6 +VS

## 830208332309
designator Y?, comment 156.25MHz, 2.5V  (value not drawn)
WE-SPXO Simple Packaged Quartz Oscillator, SMT, IQXO-618-25, 156.25MHz, 2.5V; Manufacturer Part Number: 830208332309; Manufacturer: Wurth Elektronik; Frequency Stability: +/-50ppm; ComponentLink1Description: Website Link; ComponentLink1URL: https://www.we-online.com/redexpert/article/830208332309?ad; ComponentLink2Description: Datasheet Link; ComponentLink2URL: https://www.we-online.com/redexpert/spec/830208332309?ad; Category: Oscillators; Match Code: WE-SPXO; Mount: Surface Mount; Operating Temperature Max: 105°C; Operating Temperature Min: -40°C; Packaging: Tape and Reel; Case/Size Code: IQXO-618-25; Length: 3.2mm; Width: 2.5mm; Height: 1.1mm; Frequency: 156.25MHz; Supply Voltage: 2.5V
footprint WE-SPXO_IQXO-618-25
pins: 1 Standby, 2 NC, 3 GND, 4 Output+, 5 Output-, 6 +VS

## 830208332501
designator Y?, comment 100MHz, 2.5V  (value not drawn)
WE-SPXO Simple Packaged Quartz Oscillator, SMT, IQXO-623, 100MHz, 2.5V; Manufacturer Part Number: 830208332501; Manufacturer: Wurth Elektronik; Frequency Stability: +/-50ppm; ComponentLink1Description: Website Link; ComponentLink1URL: https://www.we-online.com/redexpert/article/830208332501?ad; ComponentLink2Description: Datasheet Link; ComponentLink2URL: https://www.we-online.com/redexpert/spec/830208332501?ad; Category: Oscillators; Match Code: WE-SPXO; Mount: Surface Mount; Operating Temperature Max: 105°C; Operating Temperature Min: -40°C; Packaging: Tape and Reel; Case/Size Code: IQXO-623; Length: 3.2mm; Width: 2.5mm; Height: 1.1mm; Frequency: 100MHz; Supply Voltage: 2.5V
footprint WE-SPXO_IQXO-623
pins: 1 Standby, 2 NC, 3 GND, 4 Output+, 5 Output-, 6 +VS

## 830208332601
designator Y?, comment 125MHz, 2.5V  (value not drawn)
WE-SPXO Simple Packaged Quartz Oscillator, SMT, IQXO-623, 125MHz, 2.5V; Manufacturer Part Number: 830208332601; Manufacturer: Wurth Elektronik; Frequency Stability: +/-50ppm; ComponentLink1Description: Website Link; ComponentLink1URL: https://www.we-online.com/redexpert/article/830208332601?ad; ComponentLink2Description: Datasheet Link; ComponentLink2URL: https://www.we-online.com/redexpert/spec/830208332601?ad; Category: Oscillators; Match Code: WE-SPXO; Mount: Surface Mount; Operating Temperature Max: 105°C; Operating Temperature Min: -40°C; Packaging: Tape and Reel; Case/Size Code: IQXO-623; Length: 3.2mm; Width: 2.5mm; Height: 1.1mm; Frequency: 125MHz; Supply Voltage: 2.5V
footprint WE-SPXO_IQXO-623
pins: 1 Standby, 2 NC, 3 GND, 4 Output+, 5 Output-, 6 +VS

## 830208332701
designator Y?, comment 156.25MHz, 2.5V  (value not drawn)
WE-SPXO Simple Packaged Quartz Oscillator, SMT, IQXO-623, 156.25MHz, 2.5V; Manufacturer Part Number: 830208332701; Manufacturer: Wurth Elektronik; Frequency Stability: +/-50ppm; ComponentLink1Description: Website Link; ComponentLink1URL: https://www.we-online.com/redexpert/article/830208332701?ad; ComponentLink2Description: Datasheet Link; ComponentLink2URL: https://www.we-online.com/redexpert/spec/830208332701?ad; Category: Oscillators; Match Code: WE-SPXO; Mount: Surface Mount; Operating Temperature Max: 105°C; Operating Temperature Min: -40°C; Packaging: Tape and Reel; Case/Size Code: IQXO-623; Length: 3.2mm; Width: 2.5mm; Height: 1.1mm; Frequency: 156.25MHz; Supply Voltage: 2.5V
footprint WE-SPXO_IQXO-623
pins: 1 Standby, 2 NC, 3 GND, 4 Output+, 5 Output-, 6 +VS

## 830208334301
designator Y?, comment 100MHz, 3.3V  (value not drawn)
WE-SPXO Simple Packaged Quartz Oscillator, SMT, IQXO-624, 100MHz, 3.3V; Manufacturer Part Number: 830208334301; Manufacturer: Wurth Elektronik; Frequency Stability: +/-50ppm; ComponentLink1Description: Website Link; ComponentLink1URL: https://www.we-online.com/redexpert/article/830208334301?ad; ComponentLink2Description: Datasheet Link; ComponentLink2URL: https://www.we-online.com/redexpert/spec/830208334301?ad; Category: Oscillators; Match Code: WE-SPXO; Mount: Surface Mount; Operating Temperature Max: 105°C; Operating Temperature Min: -40°C; Packaging: Tape and Reel; Case/Size Code: IQXO-624; Length: 3.2mm; Width: 2.5mm; Height: 1.1mm; Frequency: 100MHz; Supply Voltage: 3.3V
footprint WE-SPXO_IQXO-624
pins: 1 Standby, 2 NC, 3 GND, 4 Output+, 5 Output-, 6 +VS

## 830208334501
designator Y?, comment 125MHz, 3.3V  (value not drawn)
WE-SPXO Simple Packaged Quartz Oscillator, SMT, IQXO-624, 125MHz, 3.3V; Manufacturer Part Number: 830208334501; Manufacturer: Wurth Elektronik; Frequency Stability: +/-50ppm; ComponentLink1Description: Website Link; ComponentLink1URL: https://www.we-online.com/redexpert/article/830208334501?ad; ComponentLink2Description: Datasheet Link; ComponentLink2URL: https://www.we-online.com/redexpert/spec/830208334501?ad; Category: Oscillators; Match Code: WE-SPXO; Mount: Surface Mount; Operating Temperature Max: 105°C; Operating Temperature Min: -40°C; Packaging: Tape and Reel; Case/Size Code: IQXO-624; Length: 3.2mm; Width: 2.5mm; Height: 1.1mm; Frequency: 125MHz; Supply Voltage: 3.3V
footprint WE-SPXO_IQXO-624
pins: 1 Standby, 2 NC, 3 GND, 4 Output+, 5 Output-, 6 +VS

## 830208334601
designator Y?, comment 156.25MHz, 3.3V  (value not drawn)
WE-SPXO Simple Packaged Quartz Oscillator, SMT, IQXO-624, 156.25MHz, 3.3V; Manufacturer Part Number: 830208334601; Manufacturer: Wurth Elektronik; Frequency Stability: +/-50ppm; ComponentLink1Description: Website Link; ComponentLink1URL: https://www.we-online.com/redexpert/article/830208334601?ad; ComponentLink2Description: Datasheet Link; ComponentLink2URL: https://www.we-online.com/redexpert/spec/830208334601?ad; Category: Oscillators; Match Code: WE-SPXO; Mount: Surface Mount; Operating Temperature Max: 105°C; Operating Temperature Min: -40°C; Packaging: Tape and Reel; Case/Size Code: IQXO-624; Length: 3.2mm; Width: 2.5mm; Height: 1.1mm; Frequency: 156.25MHz; Supply Voltage: 3.3V
footprint WE-SPXO_IQXO-624
pins: 1 Standby, 2 NC, 3 GND, 4 Output+, 5 Output-, 6 +VS